# Altium schematic symbol library Trans,Array,NPN_PNP,50V,0.15A,CommonEmitter,SMD.Schlib: 1 symbol
Pins are listed as number, name and electrical type; pins without a type are passive.

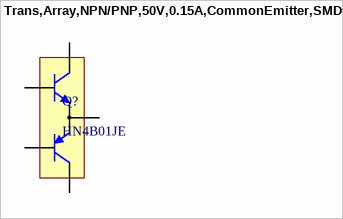
[diagram p0: symbol Trans,Array,NPN/PNP,50V,0.15A,CommonEmitter,SMD]

## Trans,Array,NPN/PNP,50V,0.15A,CommonEmitter,SMD
designator Q?, comment HN4B01JE
Bipolar (BJT) Transistor Array NPN, PNP (Emitter Coupled) 50V 150mA 80MHz 100mW Surface Mount ESV
pins: 1 B1, 2 E, 3 B2, 4 C2, 5 C1